# Altium footprint library non_standard_res_cap_ind.PcbLib: 6 footprints
Each footprint in its own frame and in the unit in brackets; x right, y up, seen from the top. Pads: shape width x height; smd on the part's side, far side on the other; paste and mask are expansions set on the pad; w line width, h text height; cw(c..) or ccw(c..) is an arc to the next point about the centre after c.
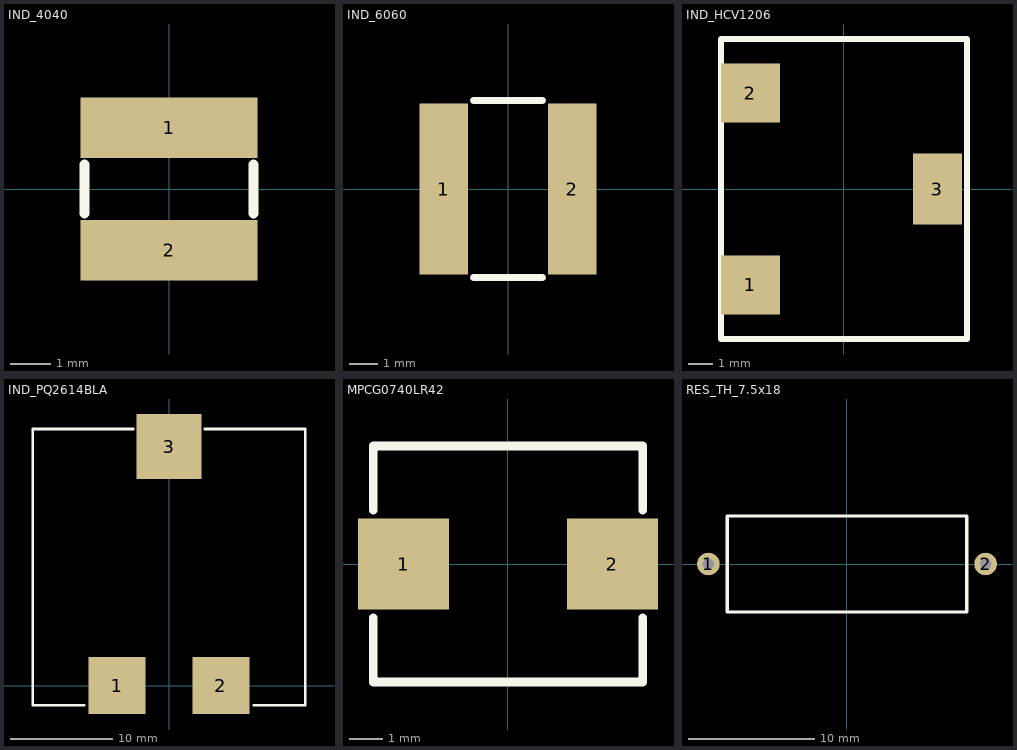
[diagram p0: the footprints below, top view; thin cyan lines are the x and y axes]

## IND_4040 [mm]
pads (2):
  rect 4.4x1.5 smd: 1(0,1.525) 2(0,-1.525)
Top Overlay:
  lines w0.254: -2.1,-0.6 -2.1,0.6 ; 2.1,-0.6 2.1,0.6
3D body "STEP-WE-LQS-4025-rev1.stp": height 2.15, standoff 0, extent -2,-2 2,2

## IND_6060 [mm]
pads (2):
  rect 1.7x6 smd: 1(-2.25,0) 2(2.25,0)
Top Overlay:
  lines w0.254: -1.2,-3.1 1.2,-3.1 ; -1.2,3.1 1.2,3.1
3D body "ASPI-6045S.STEP": height 4.5, standoff 0, extent -3,-3 3,3

## IND_HCV1206 [mm]
pads (3):
  rect 2.4x2.4 smd: 1(-3.8,-3.9) 2(-3.8,3.9)
  rect 2x2.9 smd: 3(3.8,0)
Top Overlay:
  lines w0.254: -5,-6.1 5,-6.1 5,6.1 -5,6.1 -5,-6.1
3D body: height 5.1, standoff 0, extent -5,-6.1 5,6.1

## IND_PQ2614BLA [mm]
pads (3):
  rect 5.6x5.6 smd: 1(-5.1,0) 2(5.1,0)
  rect 6.4x6.4 smd: 3(0,23.5)
Top Overlay:
  lines w0.254: -8.35,-1.95 -13.4,-1.95 -13.4,25.225 -3.525,25.225 ; 3.525,25.225 13.4,25.225 13.4,-1.95 8.35,-1.95
3D body "PQ2614BLA.stp": height 15, standoff -0.1, extent -13.4,-1.95 13.4,25.225

## MPCG0740LR42 [mm]
pads (2):
  rect 2.7x2.7 smd: 1(-3.1,0) 2(3.1,0)
Top Overlay:
  lines w0.254: -4,-1.6 -4,-3.5 4,-3.5 4,-1.6 ; -4,1.6 -4,3.5 4,3.5 4,1.6
3D body "MPCG0740LR42.step": height 3.96, standoff -0.05, extent -4,-3.5 4,3.5

## RES_TH_7.5x18 [mm]
pads (2):
  round 1.8 hole 0.9: 1(-11,0) 2(11,0)
Top Overlay:
  lines w0.254: -9.5,-3.8 9.5,-3.8 9.5,3.8 -9.5,3.8 -9.5,-3.8
3D body: height 7.5, standoff 0, extent -9.5,-3.8 9.5,3.8